# EAGLE library part LED_RGBW_* (library LM555-Jessica-Ly)
Inolux IN-505FCHWV RGBW LED Datasheet <https://www.mouser.com/datasheet/2/180/IN-505FCHWV-1488542.pdf>
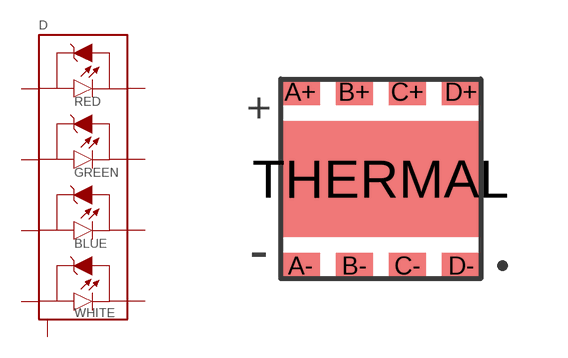
[diagram p37: symbol with the pads of IN-505FCHWV; footprint IN-505FCHWV]

Designator prefix D

## LED_RGBW_IN-505FCHWV (COLOR: RGBW; DKPN: 1830-1097-2-ND; MANUFACTURER: INOLUX; MOPN: 743-IN-505FCHWV; MPN: IN-505FCHWV)  [IN-505FCHWV]
A+  RED+  pas
A-  RED-  pas
B+  GREEN+  pas
B-  GREEN-  pas
C+  BLUE+  pas
C-  BLUE-  pas
D+  WHITE+  pas
D-  WHITE-  pas
THERMAL  THERMAL  pas

## Footprint IN-505FCHWV (pad centres in mm)
Inolux IN-505FCHWV RGBW LED Datasheet <https://www.mouser.com/datasheet/2/180/IN-505FCHWV-1488542.pdf>
smd 0.975 x 0.65: A+ -2.013,2.175; A- -2.013,-2.175; D+ 2.013,2.175; D- 2.013,-2.175
smd 0.925 x 0.65: B+ -0.662,2.175; B- -0.662,-2.175; C+ 0.662,2.175; C- 0.662,-2.175
smd 5 x 2.9: THERMAL 0,0